# EAGLE library part AMPMODU_SYS50_HDR_100 (library xess)
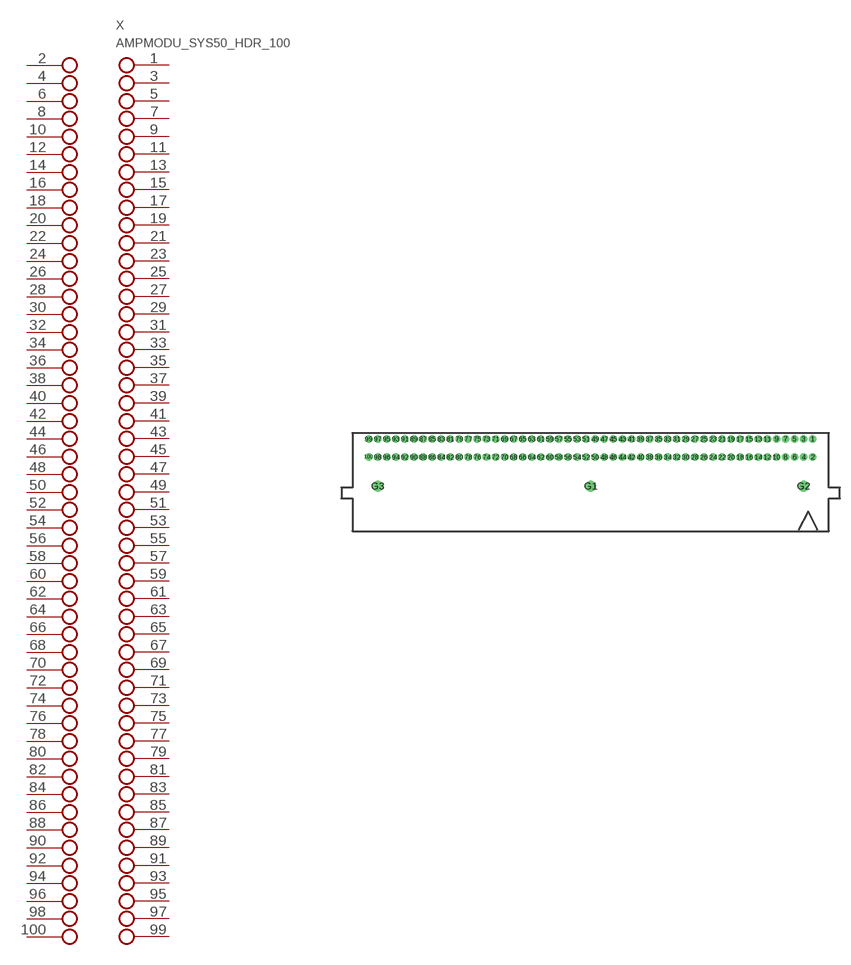
[diagram p124: symbol with the pads of 6-104069-7; footprint 6-104069-7]

Designator prefix X

## AMPMODU_SYS50_HDR_1006-104069-7  [6-104069-7]
1  1
2  2
3  3
4  4
5  5
6  6
7  7
8  8
9  9
10  10
11  11
12  12
13  13
14  14
15  15
16  16
17  17
18  18
19  19
20  20
21  21
22  22
23  23
24  24
25  25
26  26
27  27
28  28
29  29
30  30
31  31
32  32
33  33
34  34
35  35
36  36
37  37
38  38
39  39
40  40
41  41
42  42
43  43
44  44
45  45
46  46
47  47
48  48
49  49
50  50
51  51
52  52
53  53
54  54
55  55
56  56
57  57
58  58
59  59
60  60
61  61
62  62
63  63
64  64
65  65
66  66
67  67
68  68
69  69
70  70
71  71
72  72
73  73
74  74
75  75
76  76
77  77
78  78
79  79
80  80
81  81
82  82
83  83
84  84
85  85
86  86
87  87
88  88
89  89
90  90
91  91
92  92
93  93
94  94
95  95
96  96
97  97
98  98
99  99
100  100

## Footprint 6-104069-7 (pad centres in mm)
AMPMODU System 50 100-pin R/A shrouded header
drill 0.559 pad 0.889 round: 1 31.115,0; 2 31.115,-2.54; 3 29.845,0; 4 29.845,-2.54; 5 28.575,0; 6 28.575,-2.54; 7 27.305,0; 8 27.305,-2.54; 9 26.035,0; 10 26.035,-2.54; 11 24.765,0; 12 24.765,-2.54; 13 23.495,0; 14 23.495,-2.54; 15 22.225,0; 16 22.225,-2.54; 17 20.955,0; 18 20.955,-2.54; 19 19.685,0; 20 19.685,-2.54; 21 18.415,0; 22 18.415,-2.54; 23 17.145,0; 24 17.145,-2.54; 25 15.875,0; 26 15.875,-2.54; 27 14.605,0; 28 14.605,-2.54; 29 13.335,0; 30 13.335,-2.54; 31 12.065,0; 32 12.065,-2.54; 33 10.795,0; 34 10.795,-2.54; 35 9.525,0; 36 9.525,-2.54; 37 8.255,0; 38 8.255,-2.54; 39 6.985,0; 40 6.985,-2.54; 41 5.715,0; 42 5.715,-2.54; 43 4.445,0; 44 4.445,-2.54; 45 3.175,0; 46 3.175,-2.54; 47 1.905,0; 48 1.905,-2.54; 49 0.635,0; 50 0.635,-2.54; 51 -0.635,0; 52 -0.635,-2.54; 53 -1.905,0; 54 -1.905,-2.54; 55 -3.175,0; 56 -3.175,-2.54; 57 -4.445,0; 58 -4.445,-2.54; 59 -5.715,0; 60 -5.715,-2.54; 61 -6.985,0; 62 -6.985,-2.54; 63 -8.255,0; 64 -8.255,-2.54; 65 -9.525,0; 66 -9.525,-2.54; 67 -10.795,0; 68 -10.795,-2.54; 69 -12.065,0; 70 -12.065,-2.54; 71 -13.335,0; 72 -13.335,-2.54; 73 -14.605,0; 74 -14.605,-2.54; 75 -15.875,0; 76 -15.875,-2.54; 77 -17.145,0; 78 -17.145,-2.54; 79 -18.415,0; 80 -18.415,-2.54; 81 -19.685,0; 82 -19.685,-2.54; 83 -20.955,0; 84 -20.955,-2.54; 85 -22.225,0; 86 -22.225,-2.54; 87 -23.495,0; 88 -23.495,-2.54; 89 -24.765,0; 90 -24.765,-2.54; 91 -26.035,0; 92 -26.035,-2.54; 93 -27.305,0; 94 -27.305,-2.54; 95 -28.575,0; 96 -28.575,-2.54; 97 -29.845,0; 98 -29.845,-2.54; 99 -31.115,0; 100 -31.115,-2.54
drill 0.94 pad 1.524 round: G1 0,-6.604; G2 29.845,-6.604; G3 -29.845,-6.604